# Altium footprint library PCBLibrary.PcbLib: 13 footprints
Each footprint in its own frame and in the unit in brackets; x right, y up, seen from the top. Pads: shape width x height; smd on the part's side, far side on the other; paste and mask are expansions set on the pad; w line width, h text height; cw(c..) or ccw(c..) is an arc to the next point about the centre after c.
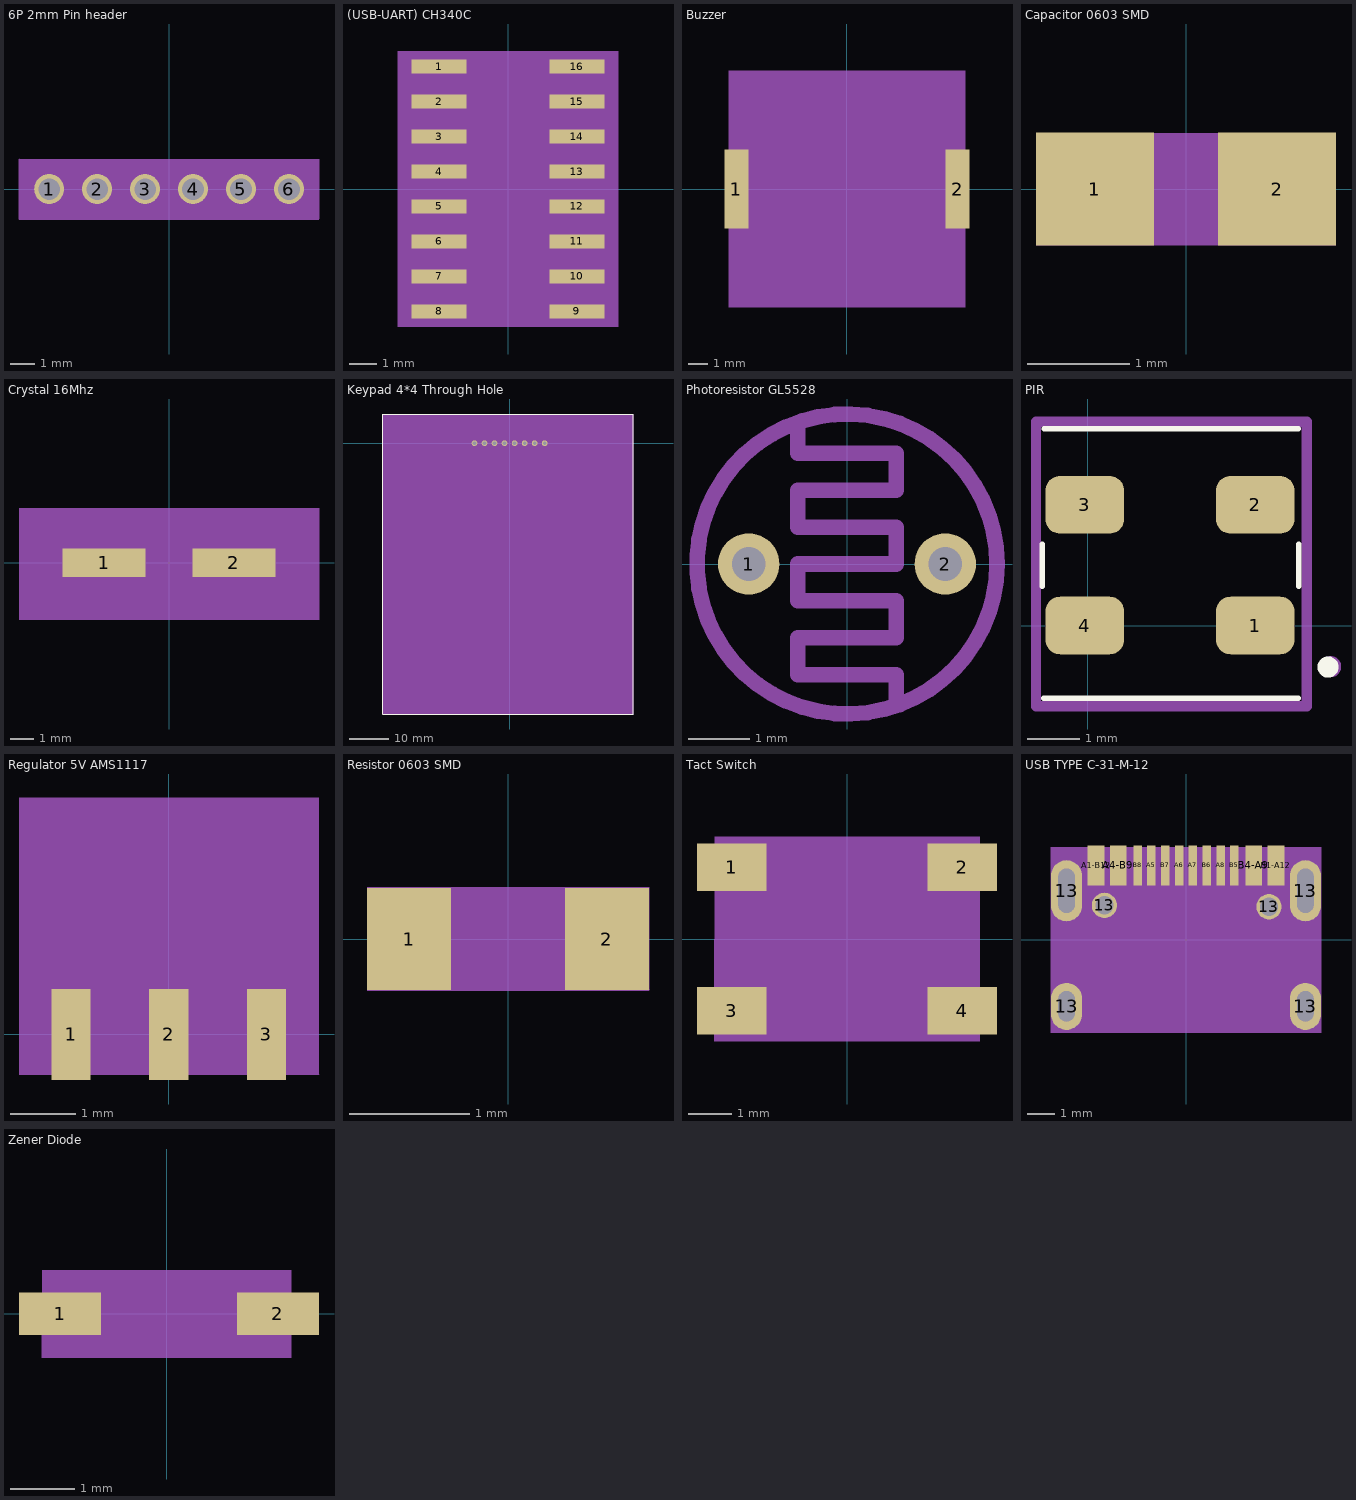
[diagram p0: the footprints below, top view; thin cyan lines are the x and y axes]

## 6P 2mm Pin header [mm]
pads (6):
  round 1.25 hole 0.9: 1(-5,0) 2(-3,0) 3(-1,0) 4(1,0) 5(3,0) 6(5,0)
Top Overlay:
  text ".Designator" at -1.3,1.794 h0.5
Mechanical 15:
  region: 6.246,1.243 6.252,1.236 6.252,-1.248 -6.25,-1.248 -6.256,-1.242 -6.244,-1.229 -6.244,1.255
  lines w0.05: -6.25,-1.25 6.25,-1.25 6.25,1.25 -6.25,1.25 -6.25,-1.25
3D body "User Library-MW-6M-2.STEP": height 6.17, standoff -3.23, extent -6.9,-1.5 7,3.3

## (USB-UART) CH340C [mm]
pads (16):
  rect 2x0.5 smd: 1(-2.5,4.445) 2(-2.5,3.175) 3(-2.5,1.905) 4(-2.5,0.635) 5(-2.5,-0.635) 6(-2.5,-1.905) 7(-2.5,-3.175) 8(-2.5,-4.445) 9(2.5,-4.445) 10(2.5,-3.175) 11(2.5,-1.905) 12(2.5,-0.635) 13(2.5,0.635) 14(2.5,1.905) 15(2.5,3.175) 16(2.5,4.445)
Top Overlay:
  text ".Designator" at -1.1,5.794 h0.5
Mechanical 15:
  region: -4,5 4,5 4,-5 -4,-5
3D body "CH340C-1.step": height 1.58, standoff 0, extent -3.117,-5 3.117,4.981

## Buzzer [mm]
pads (2):
  rect 1.2x4 smd: 1(-5.6,0) 2(5.6,0)
Top Overlay:
  text ".Designator" at -1.1,6.794 h0.5
Mechanical 15:
  region: -6,6 6,6 6,-6 -6,-6
3D body "PKLCS_472x472_MUR.step": height 3, standoff 0, extent -5.994,-5.994 5.994,5.994

## Capacitor 0603 SMD [mm]
pads (2):
  rect 1.15x1.1 smd: 1(-0.889,0) 2(0.889,0)
Top Overlay:
  text ".Designator" at -1.1,0.794 h0.5
Mechanical 15:
  region: -1.46,0.546 -1.464,0.542 -1.464,-0.548 1.454,-0.548 1.458,-0.552 1.458,0.546
3D body "User Library-cap_0603_lowprofile.step": height 0.6, standoff 0, extent -0.8,-0.4 0.8,0.4

## Crystal 16Mhz [mm]
pads (2):
  rect 3.5x1.2 smd: 1(-2.75,0) 2(2.75,0)
Top Overlay:
  text ".Designator" at -0.75,1.094 h0.5
Mechanical 15:
  region: -6.35,2.3 -6.35,-2.4 6.35,-2.4 6.35,2.3
3D body "User Library-HC49US.STEP": height 4.2, standoff 0, extent -6.35,-2.4 6.35,2.3

## Keypad 4*4 Through Hole [mil]
pads (8):
  round 57 / inner round 60 / far side round 57 hole 37 paste-99999 mask+0: 1(-350,0) 2(-250,0) 3(-150,0) 4(-50,0) 5(50,0) 6(150,0) 7(250,0) 8(350,0)
Top Overlay:
  lines w10: -1265.75,-2700.79 -1265.75,291.34 1234.25,291.34 1234.25,-2700.79 -1265.75,-2700.79
Mechanical 15:
  region: -1265.75,291.34 1234.25,291.34 1234.25,-2700.79 -1265.75,-2700.79
3D body "96bb2-006-fs-el.stp": height 389.96, standoff -215.04, extent -1250,-2550.39 1250,149.61

## Photoresistor GL5528 [mm]
pads (2):
  round 1 hole 0.55: 1(-1.6,0) 2(1.6,0)
Mechanical 15:
  circle w0.254: c0,0 r2.441
  lines w0.254: -0.8,2.2 -0.8,1.8 0.8,1.8 0.8,1.2 -0.8,1.2 -0.8,0.6 0.8,0.6 0.8,0 -0.8,0 -0.8,-0.6 0.8,-0.6 0.8,-1.2 -0.8,-1.2 -0.8,-1.8 0.8,-1.8 0.8,-2.2
3D body "User Library-photocell_v8.step": height 2.6, standoff -9.6, extent -2.55,-2.15 2.55,2.15

## PIR [mm]
pads (4):
  rrect50% 1.5x1.1 smd: 1(3.19,0) 2(3.19,2.3) 3(-0.06,2.3) 4(-0.06,0)
Top Overlay:
  circle w0.2: c4.575,-0.792 r0.1
  lines w0.1: -0.87,0.75 -0.87,1.55 ; -0.841,-1.385 4.013,-1.385 ; -0.834,3.75 4.009,3.75 ; 4.02,0.75 4.02,1.55
  text ".Designator" at 1.766,-2.173 h0.6
Assembly Notes:
  circle w0.2: c4.628,-0.784 r0.1
  lines w0.2: -0.991,-1.54 4.167,-1.54 4.167,3.885 -0.991,3.885 -0.991,-1.54
  text ".Designator" at 1.806,-2.19 h0.6
3D body "PL-N823-01_KEM.step": height 1.7, standoff 0, extent -0.836,-1.313 3.964,3.691

## Regulator 5V AMS1117 [mm]
pads (3):
  rect 0.6x1.4 smd: 1(-1.5,0) 2(0,0) 3(1.5,0)
Top Overlay:
  text ".Designator" at -1.5,1.65 h0.8
Mechanical 15:
  region: -2.295,-0.617 2.302,-0.617 2.307,-0.612 2.302,-0.607 2.302,3.631 -2.295,3.631 -2.3,3.626
3D body "SOT-89_STM.step": height 1.65, standoff 0, extent -2.298,-0.621 2.3,3.621

## Resistor 0603 SMD [mm]
pads (2):
  rect 0.7x0.85 smd: 1(-0.825,0) 2(0.825,0)
Top Overlay:
  text ".Designator" at -1,0.694 h0.5
Mechanical 15:
  region: -1.172,0.431 -1.174,0.43 -1.174,-0.432 1.172,-0.432 1.181,-0.423 1.177,-0.42 1.177,0.433
3D body "CircuitWorks-RESISTOR 0603.step": height 0.48, standoff -0.03, extent -0.8,-0.43 0.8,0.43

## Tact Switch [mm]
pads (4):
  rect 1.6x1.1 smd: 1(-2.65,1.65) 2(2.65,1.65) 3(-2.65,-1.65) 4(2.65,-1.65)
Top Overlay:
  text ".Designator" at -1,2.594 h0.5
Mechanical 15:
  region: -3.044,2.35 3.05,2.35 3.05,-2.35 -3.056,-2.35
3D body "xb-ts-1127-x.stp": height 1.6, standoff 0, extent -3,-2.34 3,2.34

## USB TYPE C-31-M-12 [mil]
pads (18):
  oval 44x67 / inner round 60 / far side oval 44x67 hole 23.62 slot 43.31 at 90 deg paste-99999 mask+0: 13(-170.08,-94.56) 13(170.08,-94.56)
  oval 44x87 / inner round 60 / far side oval 44x87 hole 23.62 slot 62.99 at 90 deg paste-99999 mask+0: 13(-170.08,70) 13(170.08,70)
  round 36 / inner round 60 / far side round 36 hole 26 paste-99999 mask-18: 13(-116.14,49.21) 13(118.11,47.24)
  rect 24x57 smd paste-28.5 mask-28.5: A1-B12(-127.96,106.06) A4-B9(-96.45,106.06) B1-A12(127.96,106.06) B4-A9(96.45,106.06)
  rect 12x57 smd paste-28.5 mask-28.5: A5(-49.22,106.06) A6(-9.85,106.06) A7(9.85,106.06) A8(49.22,106.06) B5(68.91,106.06) B6(29.54,106.06) B7(-29.54,106.06) B8(-68.91,106.06)
Top Overlay:
  text ".Designator" at -43.31,165.11 h19.68
Mechanical 15:
  region: -192.91,131.89 -192.91,-131.89 192.91,-131.89 192.91,131.89
3D body "TYPE-C 16P SMD.step": height 125.98, standoff -23.59, extent -224.41,-172.26 224.41,131.06

## Zener Diode [mil]
pads (2):
  rect 50x26 smd paste+0: 1(-65,0) 2(67.91,0)
Top Overlay:
  text ".Designator" at -70.87,57.09 h31.5
Mechanical 13:
  lines w1: -75.79,-10.83 -75.79,10.83 -56.1,10.83 -56.1,-10.83 -75.79,-10.83 ; 56.1,-10.83 56.1,10.83 75.79,10.83 75.79,-10.83 56.1,-10.83
Mechanical 15:
  region: -75.87,26.57 75.95,26.57 75.95,-26.71 75.85,-26.82 75.75,-26.72 -76.06,-26.72
3D body "SOD123_DIO.step": height 32.09, standoff 0, extent -75.79,-26.57 75.79,26.57